# Altium schematic symbol library Resistors_ADJ.SchLib: 5 symbols
Pins are listed as number, name and electrical type; pins without a type are passive.

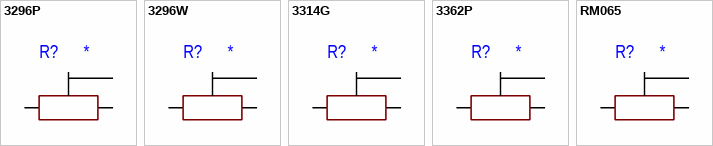
[diagram p0: symbols 3296P to RM065]

## 3296P
designator R?
Manufacturer: Bourns; Part Number: 3296P; Type: *; Note: *; Value: *
footprint 3296P
pins: 1, 2, 3

## 3296W
designator R?
Manufacturer: Bourns; Part Number: 3296W; Type: *; Note: *; Value: *
footprint 3296W
pins: 1, 2, 3

## 3314G
designator R?
Manufacturer: *; Type: *; Note: *; Part Number: *; Value: *
footprint 3314G
pins: 1, 2, 3

## 3362P
designator R?
Manufacturer: *; Type: *; Note: *; Part Number: *; Value: *
footprint 3362P
pins: 1, 2, 3

## RM065
designator R?
Part Number: RM065; Manufacturer: *; Type: *; Note: *; Value: *
footprint RM-065
pins: 1, 2, 3